# Altium footprint library DSUBHDVPTMOS15.PcbLib: 1 footprints
Each footprint in its own frame and in the unit in brackets; x right, y up, seen from the top. Pads: shape width x height; smd on the part's side, far side on the other; paste and mask are expansions set on the pad; w line width, h text height; cw(c..) or ccw(c..) is an arc to the next point about the centre after c.
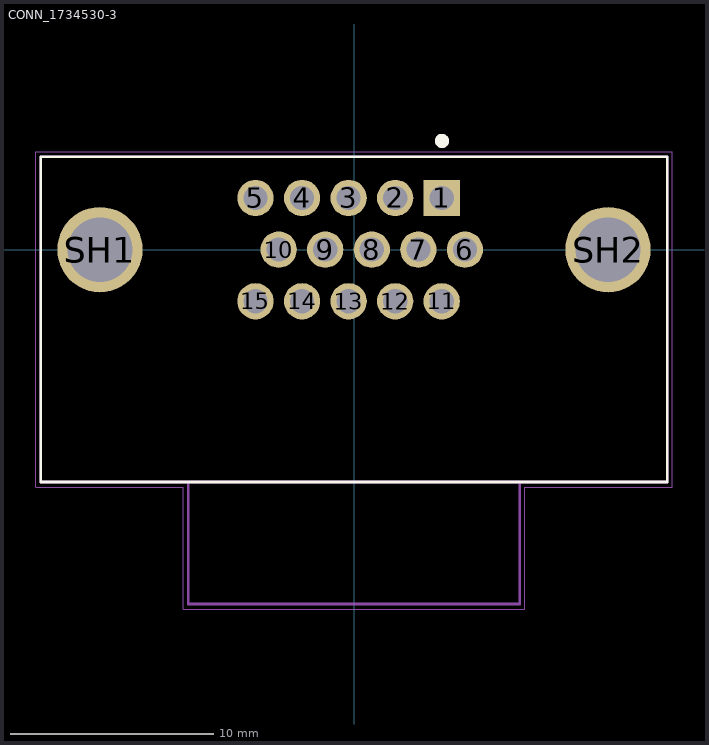
[diagram p0: the footprint, top view; thin cyan lines are the x and y axes]

## CONN_1734530-3 [mm]
pads (17):
  rect 1.785x1.785 hole 1.19: 1(4.315,2.54)
  round 1.785 hole 1.19: 2(2.025,2.54) 3(-0.265,2.54) 4(-2.555,2.54) 5(-4.845,2.54) 6(5.455,0) 7(3.165,0) 8(0.875,0) 9(-1.415,0) 10(-3.705,0) 11(4.315,-2.54) 12(2.025,-2.54) 13(-0.265,-2.54) 14(-2.555,-2.54) 15(-4.845,-2.54)
  round 4.196 hole 3.18: SH1(-12.495,0) SH2(12.495,0)
Top Overlay:
  circle w0.5: c4.33,5.346 r0.1
  lines w0.127: -15.4,-11.43 -8.15,-11.43 8.15,-11.43 15.4,-11.43 15.4,4.57 -15.4,4.57 -15.4,-11.43
Mechanical 13:
  lines w0.127: -8.15,-11.43 8.15,-11.43 ; -8.15,-11.43 -15.4,-11.43 -15.4,4.57 15.4,4.57 15.4,-11.43 8.15,-11.43 ; -8.15,-11.43 -8.15,-17.43 8.15,-17.43 8.15,-11.43
Mechanical 15:
  lines w0.05: -15.65,-11.68 -8.4,-11.68 -8.4,-17.68 8.4,-17.68 8.4,-11.68 15.65,-11.68 15.65,4.82 -15.65,4.82 -15.65,-11.68